# Altium footprint library TaiyoYuden6mmInductor.PcbLib: 1 footprints
Each footprint in its own frame and in the unit in brackets; x right, y up, seen from the top. Pads: shape width x height; smd on the part's side, far side on the other; paste and mask are expansions set on the pad; w line width, h text height; cw(c..) or ccw(c..) is an arc to the next point about the centre after c.
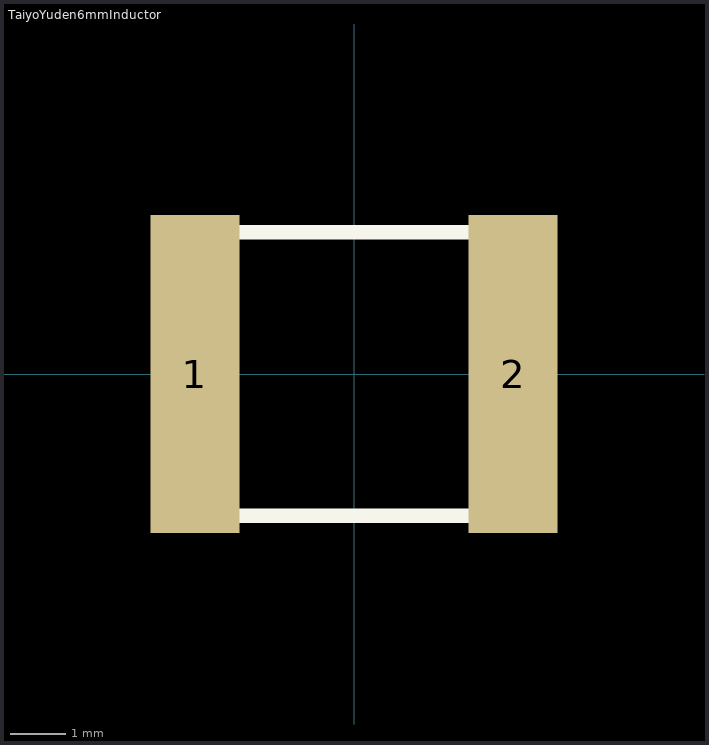
[diagram p0: the footprint, top view; thin cyan lines are the x and y axes]

## TaiyoYuden6mmInductor [mm]
pads (2):
  rect 1.6x5.7 smd: 1(-2.85,0) 2(2.85,0)
Top Overlay:
  lines w0.254: -3.34,-2.54 3.34,-2.54 3.34,2.54 -3.34,2.54 -3.34,0 -3.34,-2.54